# Altium footprint library PTH-Packages.PcbLib: 21 footprints (part 1 of 2)
Each footprint in its own frame and in the unit in brackets; x right, y up, seen from the top. Pads: shape width x height; smd on the part's side, far side on the other; paste and mask are expansions set on the pad; w line width, h text height; cw(c..) or ccw(c..) is an arc to the next point about the centre after c.
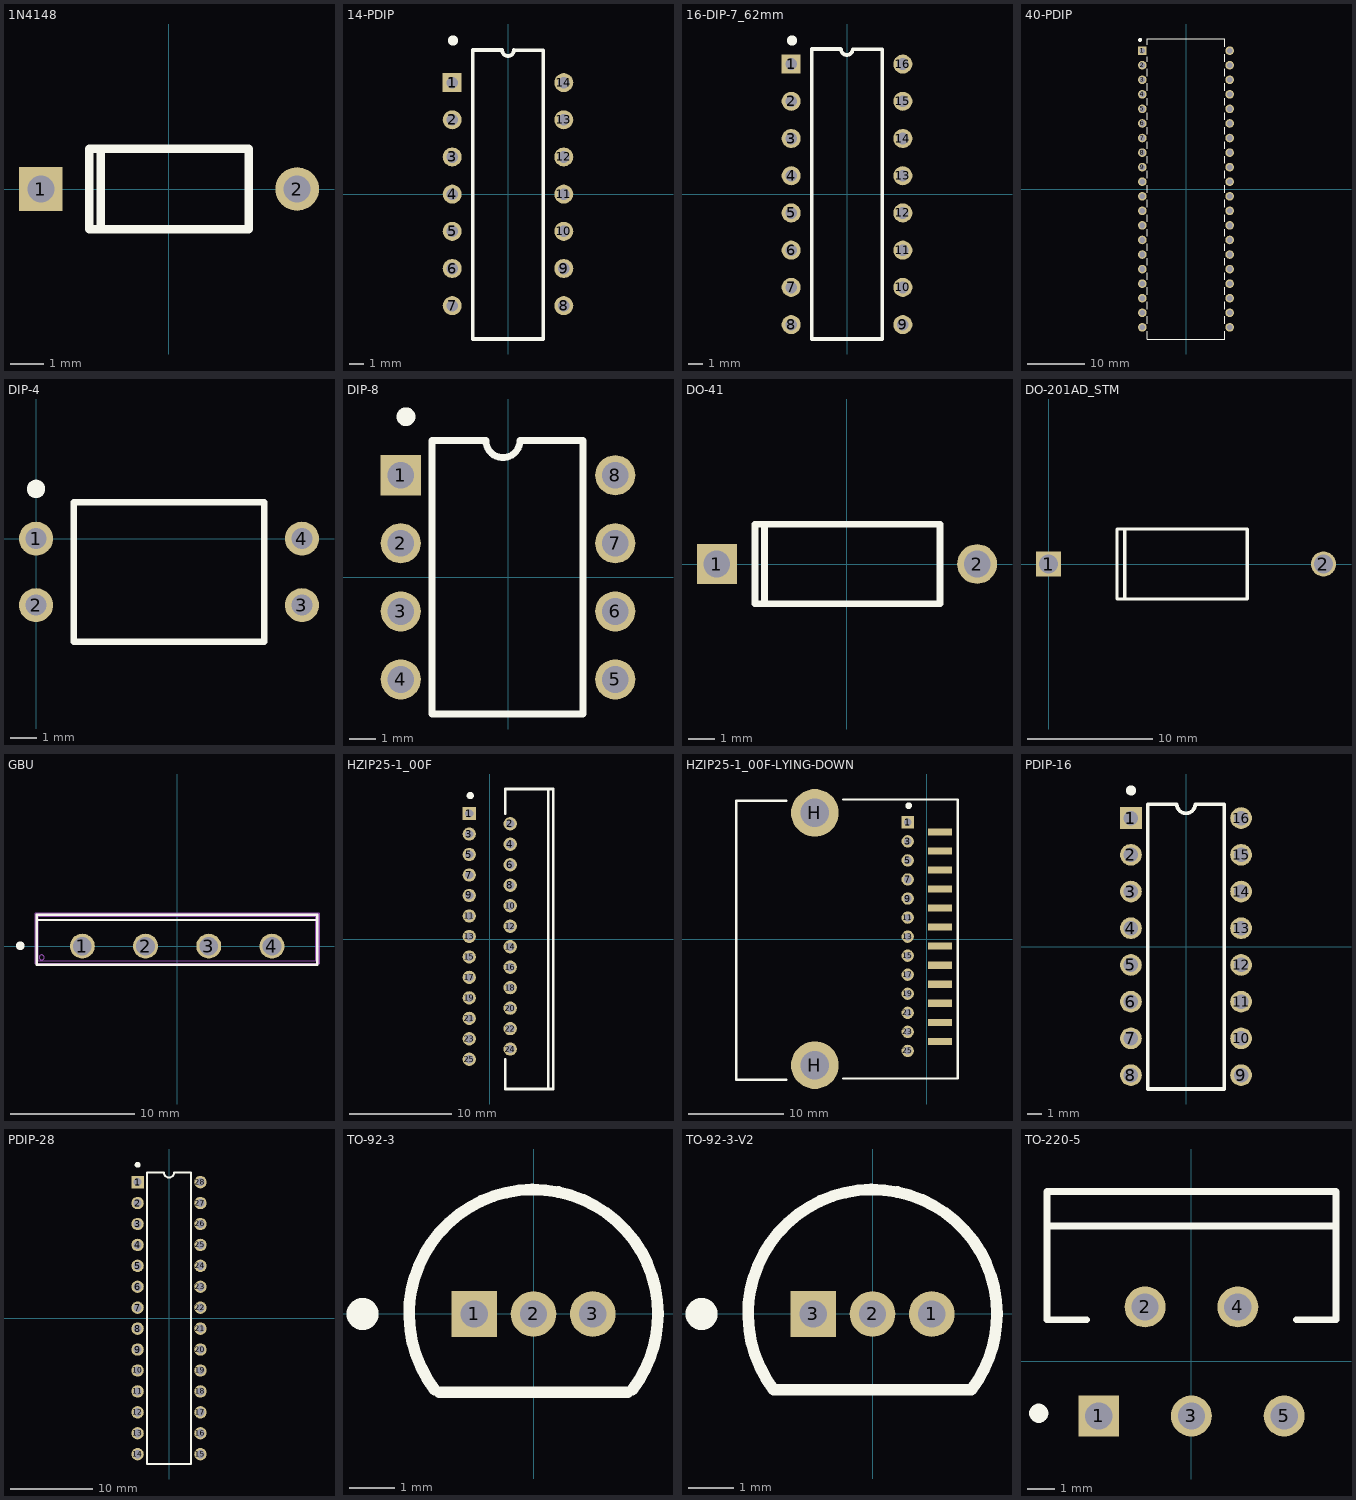
[diagram p0: the footprints below, top view; thin cyan lines are the x and y axes]

## 1N4148 [mm]
pads (2):
  rect 1.3x1.3 hole 0.8 paste-2539.97 mask+0: 1(-3.813,0)
  round 1.3 hole 0.8 paste-2539.97 mask+0: 2(3.813,0)
Top Overlay:
  lines w0.254: -2.025,1.2 -2.025,-1.2 -2.375,-1.2 ; -2.375,-1.2 -2.375,1.2 2.375,1.2 2.375,-1.2 -2.375,-1.2
3D body "Diode_ON_Semiconductor_1N914B_eec.STEP": height 0.25, standoff 0, extent -4.513,-1.055 4.513,1.055

## 14-PDIP [mm]
pads (14):
  rect 1.3x1.3 hole 0.8: 1(-3.81,7.62)
  round 1.3 hole 0.8: 2(-3.81,5.08) 3(-3.81,2.54) 4(-3.81,0) 5(-3.81,-2.54) 6(-3.81,-5.08) 7(-3.81,-7.62) 8(3.81,-7.62) 9(3.81,-5.08) 10(3.81,-2.54) 11(3.81,0) 12(3.81,2.54) 13(3.81,5.08) 14(3.81,7.62)
Top Overlay:
  circle w0.5: c-3.75,10.5 r0.1
  lines w0.254: -0.421,9.85 -2.4,9.85 -2.4,-9.896 2.4,-9.896 2.4,9.835 0.421,9.835 ; -0.4,9.842 ccw(c0,9.842) 0.4,9.842
3D body "N0014A-BLK.STEP": height 5.27, standoff -3.1, extent -3.937,-9.842 3.937,9.842

## 16-DIP-7_62mm [mm]
height 4.5
pads (16):
  rect 1.3x1.3 hole 0.8: 1(-3.81,8.89)
  round 1.3 hole 0.8: 2(-3.81,6.35) 3(-3.81,3.81) 4(-3.81,1.27) 5(-3.81,-1.27) 6(-3.81,-3.81) 7(-3.81,-6.35) 8(-3.81,-8.89) 9(3.81,-8.89) 10(3.81,-6.35) 11(3.81,-3.81) 12(3.81,-1.27) 13(3.81,1.27) 14(3.81,3.81) 15(3.81,6.35) 16(3.81,8.89)
Top Overlay:
  circle w0.5: c-3.75,10.5 r0.1
  lines w0.254: -2.411,9.915 -0.432,9.915 ; -2.4,9.875 -2.4,-9.871 2.4,-9.871 2.4,9.875 ; -0.411,9.908 ccw(c-0.011,9.908) 0.389,9.908 ; 0.411,9.9 2.389,9.9
3D body "User Library-DIP-16P-M03.step": height 4.66, standoff -3, extent -3.935,-9.748 3.935,9.652

## 40-PDIP [mm]
pads (40):
  rect 1.5x1.5 hole 1 paste-2539.97 mask+0: 1(-7.62,24.13)
  round 1.5 hole 1 paste-2539.97 mask+0: 2(-7.62,21.59) 3(-7.62,19.05) 4(-7.62,16.51) 5(-7.62,13.97) 6(-7.62,11.43) 7(-7.62,8.89) 8(-7.62,6.35) 9(-7.62,3.81) 10(-7.62,1.27) 11(-7.62,-1.27) 12(-7.62,-3.81) 13(-7.62,-6.35) 14(-7.62,-8.89) 15(-7.62,-11.43) 16(-7.62,-13.97) 17(-7.62,-16.51) 18(-7.62,-19.05) 19(-7.62,-21.59) 20(-7.62,-24.13) 21(7.62,-24.13) 22(7.62,-21.59) 23(7.62,-19.05) 24(7.62,-16.51) 25(7.62,-13.97) 26(7.62,-11.43) 27(7.62,-8.89) 28(7.62,-6.35) 29(7.62,-3.81) 30(7.62,-1.27) 31(7.62,1.27) 32(7.62,3.81) 33(7.62,6.35) 34(7.62,8.89) 35(7.62,11.43) 36(7.62,13.97) 37(7.62,16.51) 38(7.62,19.05) 39(7.62,21.59) 40(7.62,24.13)
Top Overlay:
  circle w0.5: c-8,26 r0.1
  lines w0.152: -6.731,-24.769 -6.731,-26.162 6.731,-26.162 6.731,-24.769 ; -6.731,-23.491 -6.731,-22.229 ; -6.731,-20.951 -6.731,-19.689 ; -6.731,-18.411 -6.731,-17.149 ; -6.731,-15.871 -6.731,-14.609 ; -6.731,-13.331 -6.731,-12.069 ; -6.731,-10.791 -6.731,-9.529 ; -6.731,-8.251 -6.731,-6.989 ; -6.731,-5.711 -6.731,-4.449 ; -6.731,-3.171 -6.731,-1.909 ; -6.731,-0.631 -6.731,0.631 ; -6.731,1.909 -6.731,3.171 ; -6.731,4.449 -6.731,5.711 ; -6.731,6.989 -6.731,8.251 ; -6.731,9.529 -6.731,10.791 ; -6.731,12.069 -6.731,13.331 ; -6.731,14.609 -6.731,15.871 ; -6.731,17.149 -6.731,18.411 ; -6.731,19.689 -6.731,20.951 ; -6.731,22.229 -6.731,23.06 ; -6.731,25.2 -6.731,26.162 6.731,26.162 6.731,24.769 ; 6.731,-23.491 6.731,-22.229 ; 6.731,-20.951 6.731,-19.689 ; 6.731,-18.411 6.731,-17.149 ; 6.731,-15.871 6.731,-14.609 ; 6.731,-13.331 6.731,-12.069 ; 6.731,-10.791 6.731,-9.529 ; 6.731,-8.251 6.731,-6.989 ; 6.731,-5.711 6.731,-4.449 ; 6.731,-3.171 6.731,-1.909 ; 6.731,-0.631 6.731,0.631 ; 6.731,1.909 6.731,3.171 ; 6.731,4.449 6.731,5.711 ; 6.731,6.989 6.731,8.251 ; 6.731,9.529 6.731,10.791 ; 6.731,12.069 6.731,13.331 ; 6.731,14.609 6.731,15.871 ; 6.731,17.149 6.731,18.411 ; 6.731,19.689 6.731,20.951 ; 6.731,22.229 6.731,23.491
3D body "ATMEGA32A-PU.step": height 6.35, standoff -5.08, extent -7.766,-25.876 7.766,25.876

## DIP-4 [mm]
pads (4):
  round 1.3 hole 0.8 paste-2539.97 mask+0: 1(0,0) 2(0,-2.54) 3(10.16,-2.54) 4(10.16,0)
Top Overlay:
  circle w0.5: c0,1.9 r0.1
  lines w0.254: 1.448,-3.937 8.712,-3.937 8.712,1.397 1.448,1.397 1.448,-3.937
3D body "PC817XF_SHP.step": height 4.12, standoff -2.54, extent -0.127,-3.81 10.541,1.27

## DIP-8 [mm] "DIP, 8-Leads, Body 10.16x6.85mm, Pitch 2.54mm"
height 4.54
pads (8):
  rect 1.5x1.5 hole 1: 1(-4,3.81)
  round 1.5 hole 1: 2(-4,1.27) 3(-4,-1.27) 4(-4,-3.81) 5(4,-3.81) 6(4,-1.27) 7(4,1.27) 8(4,3.81)
Top Overlay:
  circle w0.5: c-3.808,5.994 r0.1
  lines w0.254: -2.84,-5.1 -2.84,5.1 -0.825,5.1 ccw(c-0.19,5.1) 0.445,5.1 2.8,5.1 2.8,-5.1 -2.84,-5.1
3D body "DIP-8 N-BLK.STEP": height 4, standoff -3.35, extent -4.568,-4.9 4.568,4.9

## DO-41 [mm]
pads (2):
  rect 1.5x1.5 hole 1 paste-2539.97 mask+0: 1(-4.9,0)
  round 1.5 hole 1 paste-2539.97 mask+0: 2(4.9,0)
Top Overlay:
  lines w0.254: -3.25,-1.5 3.5,-1.5 3.5,1.5 -3.462,1.5 -3.462,-1.5 -3.112,-1.5 -3.112,1.5
3D body "1N4734ATR.step": height 2.71, standoff -21.88, extent -5.288,-1.36 5.288,1.36

## DO-201AD_STM [mm]
pads (2):
  rect 2x2 hole 1.5 paste-2539.97 mask+0: 1(0,0)
  round 2 hole 1.5 paste-2539.97 mask+0: 2(21.895,0)
Top Overlay:
  lines w0.254: 6.071,-2.781 5.456,-2.781 5.45,-2.775 5.45,2.775 5.456,2.781 6.071,2.781 ; 6.071,-2.781 15.824,-2.781 15.824,2.781 6.071,2.781 ; 6.071,-2.781 6.071,2.781
3D body "DO-201AD_STM-COR_CORRIGIDA.STEP": height 5.31, standoff -2.54, extent -0.648,-2.646 22.542,2.646

## GBU [mm]
pads (4):
  round 2 hole 1.5 paste-2539.97 mask+0.1: 1(-7.62,0) 2(-2.54,0) 3(2.54,0) 4(7.62,0)
Top Overlay:
  circle w0.5: c-12.615,0.03 r0.1
  rectangle: -11.3,2.1 -11.278,2.517
  lines w0.2: -11.278,2.1 11.278,2.1 ; -11.151,2.517 11.151,2.517 ; -11.278,-1.5 11.278,-1.5 11.278,2.517 -11.278,2.517 -11.278,-1.5
Mechanical 13:
  circle w0: c-10.897,-0.912 r0.203
  lines w0.025: -11.151,2.39 11.151,2.39 ; -11.151,2.39 11.151,2.39 ; -11.151,2.39 -11.151,-1.166 11.151,-1.166 11.151,2.39
Mechanical 15:
  lines w0.152: -11.405,-1.42 -11.405,2.644 11.405,2.644 11.405,-1.42 -11.405,-1.42
3D body "GBU series diode bridge.stp": height 29.52, standoff -5.98, extent -10.4,-1.25 10.4,2.05

## HZIP25-1_00F [mm] "FM, 25-Leads, Body 4.5x29.3mm, Pitch 1mm"
height 19.17
pads (25):
  rect 1.3x1.3 hole 0.8: 1(-2,12.25)
  round 1.3 hole 0.8: 2(2,11.25) 3(-2,10.25) 4(2,9.25) 5(-2,8.25) 6(2,7.25) 7(-2,6.25) 8(2,5.25) 9(-2,4.25) 10(2,3.25) 11(-2,2.25) 12(2,1.25) 13(-2,0.25) 14(2,-0.75) 15(-2,-1.75) 16(2,-2.75) 17(-2,-3.75) 18(2,-4.75) 19(-2,-5.75) 20(2,-6.75) 21(-2,-7.75) 22(2,-8.75) 23(-2,-9.75) 24(2,-10.75) 25(-2,-11.75)
Top Overlay:
  circle w0.5: c-1.9,14 r0.1
  lines w0.254: 1.525,-11.75 1.525,-14.65 6.225,-14.65 6.225,14.65 1.525,14.65 1.525,12.25 ; 5.725,-14.65 5.725,14.65
3D body "TB6600HG-WN-NEW.STEP": height 21.08, standoff -1.54, extent -2.32,-14.67 6.09,14.63

## HZIP25-1_00F-LYING-DOWN [mm] "FM, 25-Leads, Body 4.5x29.3mm, Pitch 1mm"
height 19.17
pads (27):
  rect 1.3x1.3 hole 0.8: 1(-2,12.25)
  rect 2.5x0.75 smd: 2(1.4,11.25) 4(1.4,9.25) 6(1.4,7.25) 8(1.4,5.25) 10(1.4,3.25) 12(1.4,1.25) 14(1.4,-0.75) 16(1.4,-2.75) 18(1.4,-4.75) 20(1.4,-6.75) 22(1.4,-8.75) 24(1.4,-10.75)
  round 1.3 hole 0.8: 3(-2,10.25) 5(-2,8.25) 7(-2,6.25) 9(-2,4.25) 11(-2,2.25) 13(-2,0.25) 15(-2,-1.75) 17(-2,-3.75) 19(-2,-5.75) 21(-2,-7.75) 23(-2,-9.75) 25(-2,-11.75)
  round 5 hole 3: H(-11.75,-13.25) H(-11.75,13.25)
Top Overlay:
  circle w0.5: c-1.9,14 r0.1
  lines w0.254: -14.75,-14.8 -20,-14.8 -20,14.5 -14.75,14.5 ; -8.75,-14.65 3.25,-14.65 3.25,14.65 -8.75,14.65
3D body "TB6600HG-DEITADO.STEP": height 4.21, standoff -0.45, extent -19.813,-14.7 2.25,14.6

## PDIP-16 [mm] "DIP, 16-Leads, Body 19.7x6.6mm, Pitch 2.54mm"
height 5.08
pads (16):
  rect 1.5x1.5 hole 1: 1(-3.81,8.89)
  round 1.5 hole 1: 2(-3.81,6.35) 3(-3.81,3.81) 4(-3.81,1.27) 5(-3.81,-1.27) 6(-3.81,-3.81) 7(-3.81,-6.35) 8(-3.81,-8.89) 9(3.81,-8.89) 10(3.81,-6.35) 11(3.81,-3.81) 12(3.81,-1.27) 13(3.81,1.27) 14(3.81,3.81) 15(3.81,6.35) 16(3.81,8.89)
Top Overlay:
  circle w0.5: c-3.8,10.8 r0.1
  lines w0.254: -2.65,-9.85 2.65,-9.85 2.65,9.85 0.635,9.85 cw(c0,9.85) -0.635,9.85 -2.65,9.85 -2.65,-9.85
3D body "N0016A.stp": height 5.12, standoff -3.25, extent -3.937,-9.842 3.937,9.842

## PDIP-28 [mm] "28-Pin Plastic Dual In-Line Package (PDIP)"
height 4.58
pads (28):
  rect 1.5x1.5 hole 1: 1(-3.81,16.51)
  round 1.5 hole 1: 2(-3.81,13.97) 3(-3.81,11.43) 4(-3.81,8.89) 5(-3.81,6.35) 6(-3.81,3.81) 7(-3.81,1.27) 8(-3.81,-1.27) 9(-3.81,-3.81) 10(-3.81,-6.35) 11(-3.81,-8.89) 12(-3.81,-11.43) 13(-3.81,-13.97) 14(-3.81,-16.51) 15(3.81,-16.51) 16(3.81,-13.97) 17(3.81,-11.43) 18(3.81,-8.89) 19(3.81,-6.35) 20(3.81,-3.81) 21(3.81,-1.27) 22(3.81,1.27) 23(3.81,3.81) 24(3.81,6.35) 25(3.81,8.89) 26(3.81,11.43) 27(3.81,13.97) 28(3.81,16.51)
Top Overlay:
  circle w0.5: c-3.81,18.61 r0.1
  lines w0.254: -2.65,-17.7 -2.65,17.7 -0.635,17.7 ccw(c0,17.7) 0.635,17.7 2.65,17.7 2.65,-17.7 -2.65,-17.7
3D body "DIP28-BLK.STEP": height 4.7, standoff -2.6, extent -3.935,-17.6 3.935,17.6

## TO-92-3 [mm]
pads (3):
  rect 1x1 hole 0.6 paste-2539.97 mask+0: 1(-1.3,0)
  round 1 hole 0.6 paste-2539.97 mask+0: 2(0,0) 3(1.3,0)
Top Overlay:
  circle w0.5: c-3.75,0 r0.1
  lines w0.254: -2.164,-1.665 cw(c0,0) 2.73,0 cw(c0,0) 2.164,-1.665 ; -2.064,-1.714 2.064,-1.714
3D body "PN2222ABU.step": height 10.33, standoff -10.62, extent -2.371,-1.41 2.371,2.21

## TO-92-3-V2 [mm]
pads (3):
  round 1 hole 0.6 paste-2539.97 mask+0: 1(1.3,0) 2(0,0)
  rect 1x1 hole 0.6 paste-2539.97 mask+0: 3(-1.3,0)
Top Overlay:
  circle w0.5: c-3.75,0 r0.1
  lines w0.254: -2.164,-1.665 cw(c0,0) 2.73,0 cw(c0,0) 2.164,-1.665 -2.164,-1.665
3D body "PN2222ABU.step": height 10.33, standoff -10.62, extent -2.371,-1.41 2.371,2.21

## TO-220-5 [mm] "FM, 5-Leads, Body 10.6x4.7mm, Pitch 1.7mm"
height 21.1
pads (5):
  rect 1.5x1.5 hole 1: 1(-3.4,-2)
  round 1.5 hole 1: 2(-1.7,2) 3(0,-2) 4(1.7,2) 5(3.4,-2)
Top Overlay:
  circle w0.5: c-5.6,-1.9 r0.1
  lines w0.254: -5.3,4.96 5.3,4.96 ; -3.854,1.53 -5.3,1.53 -5.3,6.23 5.3,6.23 5.3,1.53 3.854,1.53
3D body "LM2596T-5.0.step": height 20.93, standoff -3.78, extent -5.08,-2.214 5.08,6.257